# EAGLE library part 4025XLH304 (library XILINX)
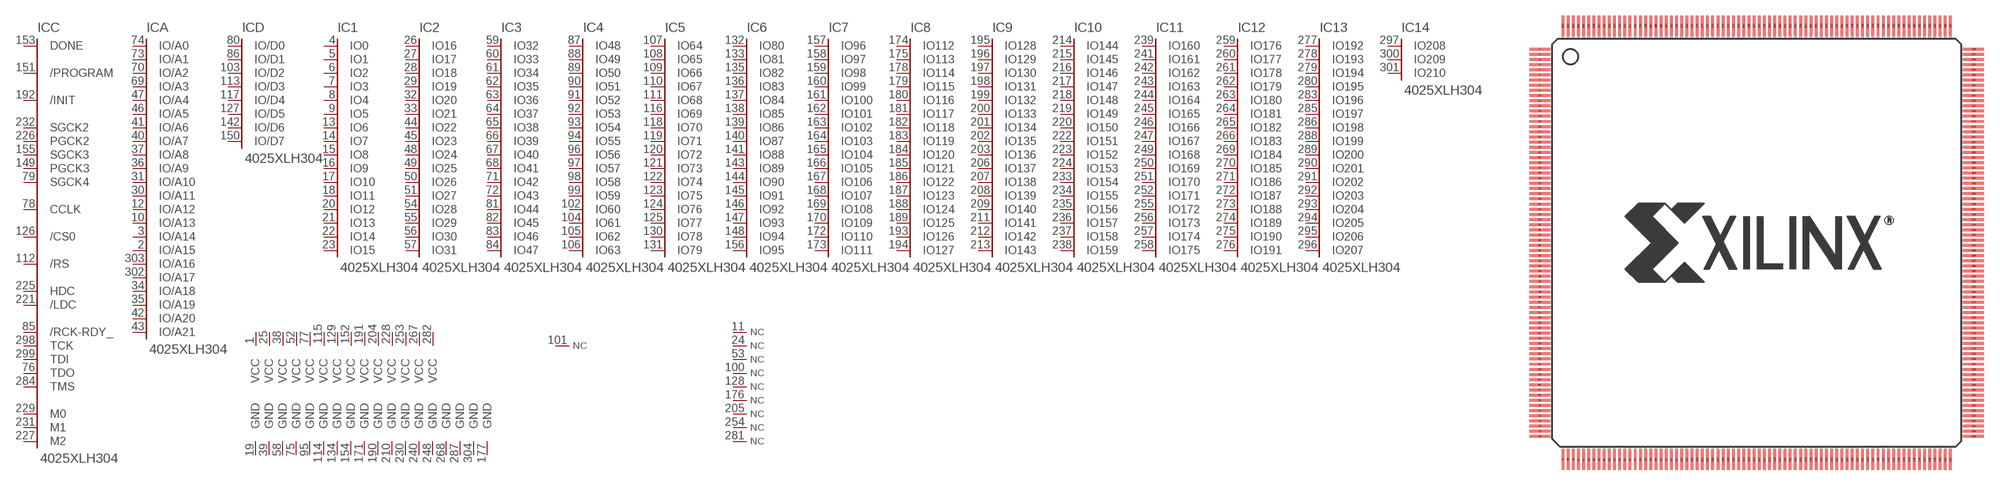
[diagram p47: symbol with the pads of PQFP304; footprint PQFP304]

Designator prefix IC; gates C=4003-C84 A=XC4-A D=XC4-D 1=XC4-IO16 2=XC4-IO32 3=XC4-IO48 4=XC4-IO64 5=XC4-IO80 6=XC4-IO96 7=XC4IO112 8=XC4IO128 9=XC4IO144 10=XC4IO160 11=XC4IO176 12=XC4IO192 13=XC4IO208 V1=VCC V2=VCC V3=VCC V4=VCC V5=VCC V6=VCC V7=VCC V8=VCC V9=VCC V10=VCC V11=VCC V12=VCC V13=VCC V14=VCC G1=GND G2=GND G3=GND G4=GND G5=GND G6=GND G7=GND G8=GND G9=GND G10=GND G11=GND G12=GND G13=GND G14=GND G15=GND G16=GND G17=GND G18=GND N1=NC N2=NC N3=NC N4=NC N5=NC N6=NC N7=NC N8=NC N9=NC 14=XC4IO210 NC=NC

## 4025XLH304  [PQFP304]
1  V1:VCC  pwr
2  A:IO/A15
3  A:IO/A14
4  1:IO0
5  1:IO1
6  1:IO2
7  1:IO3
8  1:IO4
9  1:IO5
10  A:IO/A13
11  N1:NC  nc
12  A:IO/A12
13  1:IO6
14  1:IO7
15  1:IO8
16  1:IO9
17  1:IO10
18  1:IO11
19  G1:GND  pwr
20  1:IO12
21  1:IO13
22  1:IO14
23  1:IO15
24  N2:NC  nc
25  V2:VCC  pwr
26  2:IO16
27  2:IO17
28  2:IO18
29  2:IO19
30  A:IO/A11
31  A:IO/A10
32  2:IO20
33  2:IO21
34  A:IO/A18
35  A:IO/A19
36  A:IO/A9
37  A:IO/A8
38  V3:VCC  pwr
39  G2:GND  pwr
40  A:IO/A7
41  A:IO/A6
42  A:IO/A20
43  A:IO/A21
44  2:IO22
45  2:IO23
46  A:IO/A5
47  A:IO/A4
48  2:IO24
49  2:IO25
50  2:IO26
51  2:IO27
52  V4:VCC  pwr
53  N3:NC  nc
54  2:IO28
55  2:IO29
56  2:IO30
57  2:IO31
58  G3:GND  pwr
59  3:IO32
60  3:IO33
61  3:IO34
62  3:IO35
63  3:IO36
64  3:IO37
65  3:IO38
66  3:IO39
67  3:IO40
68  3:IO41
69  A:IO/A3
70  A:IO/A2
71  3:IO42
72  3:IO43
73  A:IO/A1
74  A:IO/A0
75  G4:GND  pwr
76  C:TDO
77  V5:VCC  pwr
78  C:CCLK
79  C:SGCK4
80  D:IO/D0
81  3:IO44
82  3:IO45
83  3:IO46
84  3:IO47
85  C:/RCK-RDY_
86  D:IO/D1
87  4:IO48
88  4:IO49
89  4:IO50
90  4:IO51
91  4:IO52
92  4:IO53
93  4:IO54
94  4:IO55
95  G5:GND  pwr
96  4:IO56
97  4:IO57
98  4:IO58
99  4:IO59
100  N4:NC  nc
101  NC:NC  nc
102  4:IO60
103  D:IO/D2
104  4:IO61
105  4:IO62
106  4:IO63
107  5:IO64
108  5:IO65
109  5:IO66
110  5:IO67
111  5:IO68
112  C:/RS
113  D:IO/D3
114  G6:GND  pwr
115  V6:VCC  pwr
116  5:IO69
117  D:IO/D4
118  5:IO70
119  5:IO71
120  5:IO72
121  5:IO73
122  5:IO74
123  5:IO75
124  5:IO76
125  5:IO77
126  C:/CS0
127  D:IO/D5
128  N5:NC  nc
129  V7:VCC  pwr
130  5:IO78
131  5:IO79
132  6:IO80
133  6:IO81
134  G7:GND  pwr
135  6:IO82
136  6:IO83
137  6:IO84
138  6:IO85
139  6:IO86
140  6:IO87
141  6:IO88
142  D:IO/D6
143  6:IO89
144  6:IO90
145  6:IO91
146  6:IO92
147  6:IO93
148  6:IO94
149  C:PGCK3
150  D:IO/D7
151  C:/PROGRAM
152  V8:VCC  pwr
153  C:DONE
154  G8:GND  pwr
155  C:SGCK3
156  6:IO95
157  7:IO96
158  7:IO97
159  7:IO98
160  7:IO99
161  7:IO100
162  7:IO101
163  7:IO102
164  7:IO103
165  7:IO104
166  7:IO105
167  7:IO106
168  7:IO107
169  7:IO108
170  7:IO109
171  G9:GND  pwr
172  7:IO110
173  7:IO111
174  8:IO112
175  8:IO113
176  N6:NC  nc
177  G18:GND  pwr
178  8:IO114
179  8:IO115
180  8:IO116
181  8:IO117
182  8:IO118
183  8:IO119
184  8:IO120
185  8:IO121
186  8:IO122
187  8:IO123
188  8:IO124
189  8:IO125
190  G10:GND  pwr
191  V9:VCC  pwr
192  C:/INIT
193  8:IO126
194  8:IO127
195  9:IO128
196  9:IO129
197  9:IO130
198  9:IO131
199  9:IO132
200  9:IO133
201  9:IO134
202  9:IO135
203  9:IO136
204  V10:VCC  pwr
205  N7:NC  nc
206  9:IO137
207  9:IO138
208  9:IO139
209  9:IO140
210  G11:GND  pwr
211  9:IO141
212  9:IO142
213  9:IO143
214  10:IO144
215  10:IO145
216  10:IO146
217  10:IO147
218  10:IO148
219  10:IO149
220  10:IO150
221  C:/LDC
222  10:IO151
223  10:IO152
224  10:IO153
225  C:HDC
226  C:PGCK2
227  C:M2  in
228  V11:VCC  pwr
229  C:M0  in
230  G12:GND  pwr
231  C:M1  out
232  C:SGCK2
233  10:IO154
234  10:IO155
235  10:IO156
236  10:IO157
237  10:IO158
238  10:IO159
239  11:IO160
240  G13:GND  pwr
241  11:IO161
242  11:IO162
243  11:IO163
244  11:IO164
245  11:IO165
246  11:IO166
247  11:IO167
248  G14:GND  pwr
249  11:IO168
250  11:IO169
251  11:IO170
252  11:IO171
253  V12:VCC  pwr
254  N8:NC  nc
255  11:IO172
256  11:IO173
257  11:IO174
258  11:IO175
259  12:IO176
260  12:IO177
261  12:IO178
262  12:IO179
263  12:IO180
264  12:IO181
265  12:IO182
266  12:IO183
267  V13:VCC  pwr
268  G15:GND  pwr
269  12:IO184
270  12:IO185
271  12:IO186
272  12:IO187
273  12:IO188
274  12:IO189
275  12:IO190
276  12:IO191
277  13:IO192
278  13:IO193
279  13:IO194
280  13:IO195
281  N9:NC  nc
282  V14:VCC  pwr
283  13:IO196
284  C:TMS
285  13:IO197
286  13:IO198
287  G16:GND  pwr
288  13:IO199
289  13:IO200
290  13:IO201
291  13:IO202
292  13:IO203
293  13:IO204
294  13:IO205
295  13:IO206
296  13:IO207
297  14:IO208
298  C:TCK
299  C:TDI
300  14:IO209
301  14:IO210
302  A:IO/A17
303  A:IO/A16
304  G17:GND  pwr

## Footprint PQFP304 (pad centres in mm)
smd 2 x 0.27: 1 -21,18.75; 2 -21,18.25; 3 -21,17.75; 4 -21,17.25; 5 -21,16.75; 6 -21,16.25; 7 -21,15.75; 8 -21,15.25; 9 -21,14.75; 10 -21,14.25; 11 -21,13.75; 12 -21,13.25; 13 -21,12.75; 14 -21,12.25; 15 -21,11.75; 16 -21,11.25; 17 -21,10.75; 18 -21,10.25; 19 -21,9.75; 20 -21,9.25; 21 -21,8.75; 22 -21,8.25; 23 -21,7.75; 24 -21,7.25; 25 -21,6.75; 26 -21,6.25; 27 -21,5.75; 28 -21,5.25; 29 -21,4.75; 30 -21,4.25; 31 -21,3.75; 32 -21,3.25; 33 -21,2.75; 34 -21,2.25; 35 -21,1.75; 36 -21,1.25; 37 -21,0.75; 38 -21,0.25; 39 -21,-0.25; 40 -21,-0.75; 41 -21,-1.25; 42 -21,-1.75; 43 -21,-2.25; 44 -21,-2.75; 45 -21,-3.25; 46 -21,-3.75; 47 -21,-4.25; 48 -21,-4.75; 49 -21,-5.25; 50 -21,-5.75; 51 -21,-6.25; 52 -21,-6.75; 53 -21,-7.25; 54 -21,-7.75; 55 -21,-8.25; 56 -21,-8.75; 57 -21,-9.25; 58 -21,-9.75; 59 -21,-10.25; 60 -21,-10.75; 61 -21,-11.25; 62 -21,-11.75; 63 -21,-12.25; 64 -21,-12.75; 65 -21,-13.25; 66 -21,-13.75; 67 -21,-14.25; 68 -21,-14.75; 69 -21,-15.25; 70 -21,-15.75; 71 -21,-16.25; 72 -21,-16.75; 73 -21,-17.25; 74 -21,-17.75; 75 -21,-18.25; 76 -21,-18.75; 153 21,-18.75; 154 21,-18.25; 155 21,-17.75; 156 21,-17.25; 157 21,-16.75; 158 21,-16.25; 159 21,-15.75; 160 21,-15.25; 161 21,-14.75; 162 21,-14.25; 163 21,-13.75; 164 21,-13.25; 165 21,-12.75; 166 21,-12.25; 167 21,-11.75; 168 21,-11.25; 169 21,-10.75; 170 21,-10.25; 171 21,-9.75; 172 21,-9.25; 173 21,-8.75; 174 21,-8.25; 175 21,-7.75; 176 21,-7.25; 177 21,-6.75; 178 21,-6.25; 179 21,-5.75; 180 21,-5.25; 181 21,-4.75; 182 21,-4.25; 183 21,-3.75; 184 21,-3.25; 185 21,-2.75; 186 21,-2.25; 187 21,-1.75; 188 21,-1.25; 189 21,-0.75; 190 21,-0.25; 191 21,0.25; 192 21,0.75; 193 21,1.25; 194 21,1.75; 195 21,2.25; 196 21,2.75; 197 21,3.25; 198 21,3.75; 199 21,4.25; 200 21,4.75; 201 21,5.25; 202 21,5.75; 203 21,6.25; 204 21,6.75; 205 21,7.25; 206 21,7.75; 207 21,8.25; 208 21,8.75; 209 21,9.25; 210 21,9.75; 211 21,10.25; 212 21,10.75; 213 21,11.25; 214 21,11.75; 215 21,12.25; 216 21,12.75; 217 21,13.25; 218 21,13.75; 219 21,14.25; 220 21,14.75; 221 21,15.25; 222 21,15.75; 223 21,16.25; 224 21,16.75; 225 21,17.25; 226 21,17.75; 227 21,18.25; 228 21,18.75
smd 0.27 x 2: 77 -18.75,-21; 78 -18.25,-21; 79 -17.75,-21; 80 -17.25,-21; 81 -16.75,-21; 82 -16.25,-21; 83 -15.75,-21; 84 -15.25,-21; 85 -14.75,-21; 86 -14.25,-21; 87 -13.75,-21; 88 -13.25,-21; 89 -12.75,-21; 90 -12.25,-21; 91 -11.75,-21; 92 -11.25,-21; 93 -10.75,-21; 94 -10.25,-21; 95 -9.75,-21; 96 -9.25,-21; 97 -8.75,-21; 98 -8.25,-21; 99 -7.75,-21; 100 -7.25,-21; 101 -6.75,-21; 102 -6.25,-21; 103 -5.75,-21; 104 -5.25,-21; 105 -4.75,-21; 106 -4.25,-21; 107 -3.75,-21; 108 -3.25,-21; 109 -2.75,-21; 110 -2.25,-21; 111 -1.75,-21; 112 -1.25,-21; 113 -0.75,-21; 114 -0.25,-21; 115 0.25,-21; 116 0.75,-21; 117 1.25,-21; 118 1.75,-21; 119 2.25,-21; 120 2.75,-21; 121 3.25,-21; 122 3.75,-21; 123 4.25,-21; 124 4.75,-21; 125 5.25,-21; 126 5.75,-21; 127 6.25,-21; 128 6.75,-21; 129 7.25,-21; 130 7.75,-21; 131 8.25,-21; 132 8.75,-21; 133 9.25,-21; 134 9.75,-21; 135 10.25,-21; 136 10.75,-21; 137 11.25,-21; 138 11.75,-21; 139 12.25,-21; 140 12.75,-21; 141 13.25,-21; 142 13.75,-21; 143 14.25,-21; 144 14.75,-21; 145 15.25,-21; 146 15.75,-21; 147 16.25,-21; 148 16.75,-21; 149 17.25,-21; 150 17.75,-21; 151 18.25,-21; 152 18.75,-21; 229 18.75,21; 230 18.25,21; 231 17.75,21; 232 17.25,21; 233 16.75,21; 234 16.25,21; 235 15.75,21; 236 15.25,21; 237 14.75,21; 238 14.25,21; 239 13.75,21; 240 13.25,21; 241 12.75,21; 242 12.25,21; 243 11.75,21; 244 11.25,21; 245 10.75,21; 246 10.25,21; 247 9.75,21; 248 9.25,21; 249 8.75,21; 250 8.25,21; 251 7.75,21; 252 7.25,21; 253 6.75,21; 254 6.25,21; 255 5.75,21; 256 5.25,21; 257 4.75,21; 258 4.25,21; 259 3.75,21; 260 3.25,21; 261 2.75,21; 262 2.25,21; 263 1.75,21; 264 1.25,21; 265 0.75,21; 266 0.25,21; 267 -0.25,21; 268 -0.75,21; 269 -1.25,21; 270 -1.75,21; 271 -2.25,21; 272 -2.75,21; 273 -3.25,21; 274 -3.75,21; 275 -4.25,21; 276 -4.75,21; 277 -5.25,21; 278 -5.75,21; 279 -6.25,21; 280 -6.75,21; 281 -7.25,21; 282 -7.75,21; 283 -8.25,21; 284 -8.75,21; 285 -9.25,21; 286 -9.75,21; 287 -10.25,21; 288 -10.75,21; 289 -11.25,21; 290 -11.75,21; 291 -12.25,21; 292 -12.75,21; 293 -13.25,21; 294 -13.75,21; 295 -14.25,21; 296 -14.75,21; 297 -15.25,21; 298 -15.75,21; 299 -16.25,21; 300 -16.75,21; 301 -17.25,21; 302 -17.75,21; 303 -18.25,21; 304 -18.75,21